# Altium footprint library FSM2JSMASTR.PcbLib: 1 footprints
Each footprint in its own frame and in the unit in brackets; x right, y up, seen from the top. Pads: shape width x height; smd on the part's side, far side on the other; paste and mask are expansions set on the pad; w line width, h text height; cw(c..) or ccw(c..) is an arc to the next point about the centre after c.
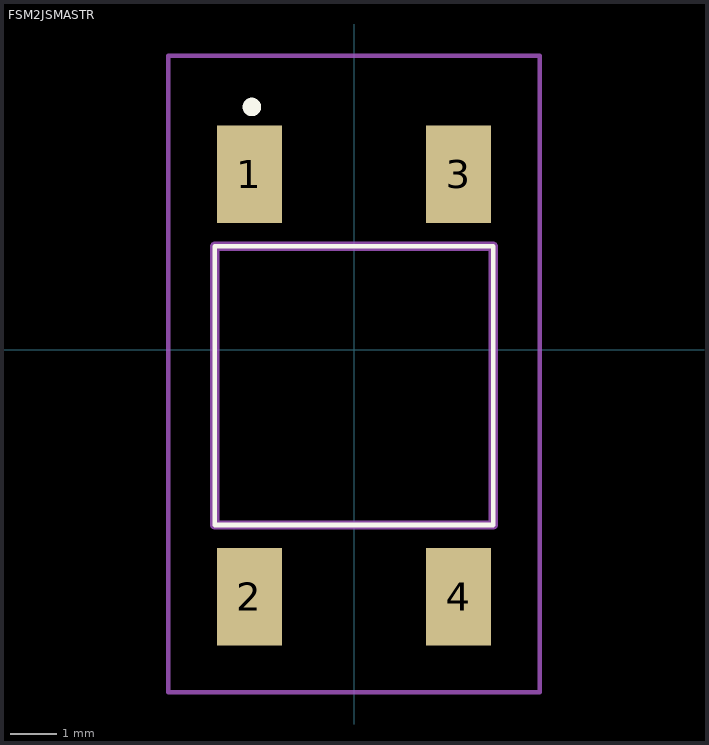
[diagram p0: the footprint, top view; thin cyan lines are the x and y axes]

## FSM2JSMASTR [mm]
pads (4):
  rect 1.4x2.1 smd: 1(-2.25,3.775) 2(-2.25,-5.325) 3(2.25,3.775) 4(2.25,-5.325)
L26-Silk Screen Top (Multiple PADS layers...):
  lines w0.1: -3,-3.775 3,-3.775 3,2.225 -3,2.225 -3,-3.775
  lines w0.2: -2.3,5.225 -2.3,5.225 ; -2.3,5.225 cw(c-2.2,5.225) -2.1,5.225 ; -2.3,5.225 ccw(c-2.2,5.225) -2.1,5.225 ; -2.1,5.225 -2.1,5.225
L15 (Multiple PADS layers...):
  lines w0.2: -3,-3.775 3,-3.775 3,2.225 -3,2.225 -3,-3.775
L20:
  lines w0.1: -4,-7.375 4,-7.375 4,6.325 -4,6.325 -4,-7.375